# Altium footprint library GAPlib_CONNECTOR.PcbLib: 26 footprints (part 1 of 2)
Each footprint in its own frame and in the unit in brackets; x right, y up, seen from the top. Pads: shape width x height; smd on the part's side, far side on the other; paste and mask are expansions set on the pad; w line width, h text height; cw(c..) or ccw(c..) is an arc to the next point about the centre after c.
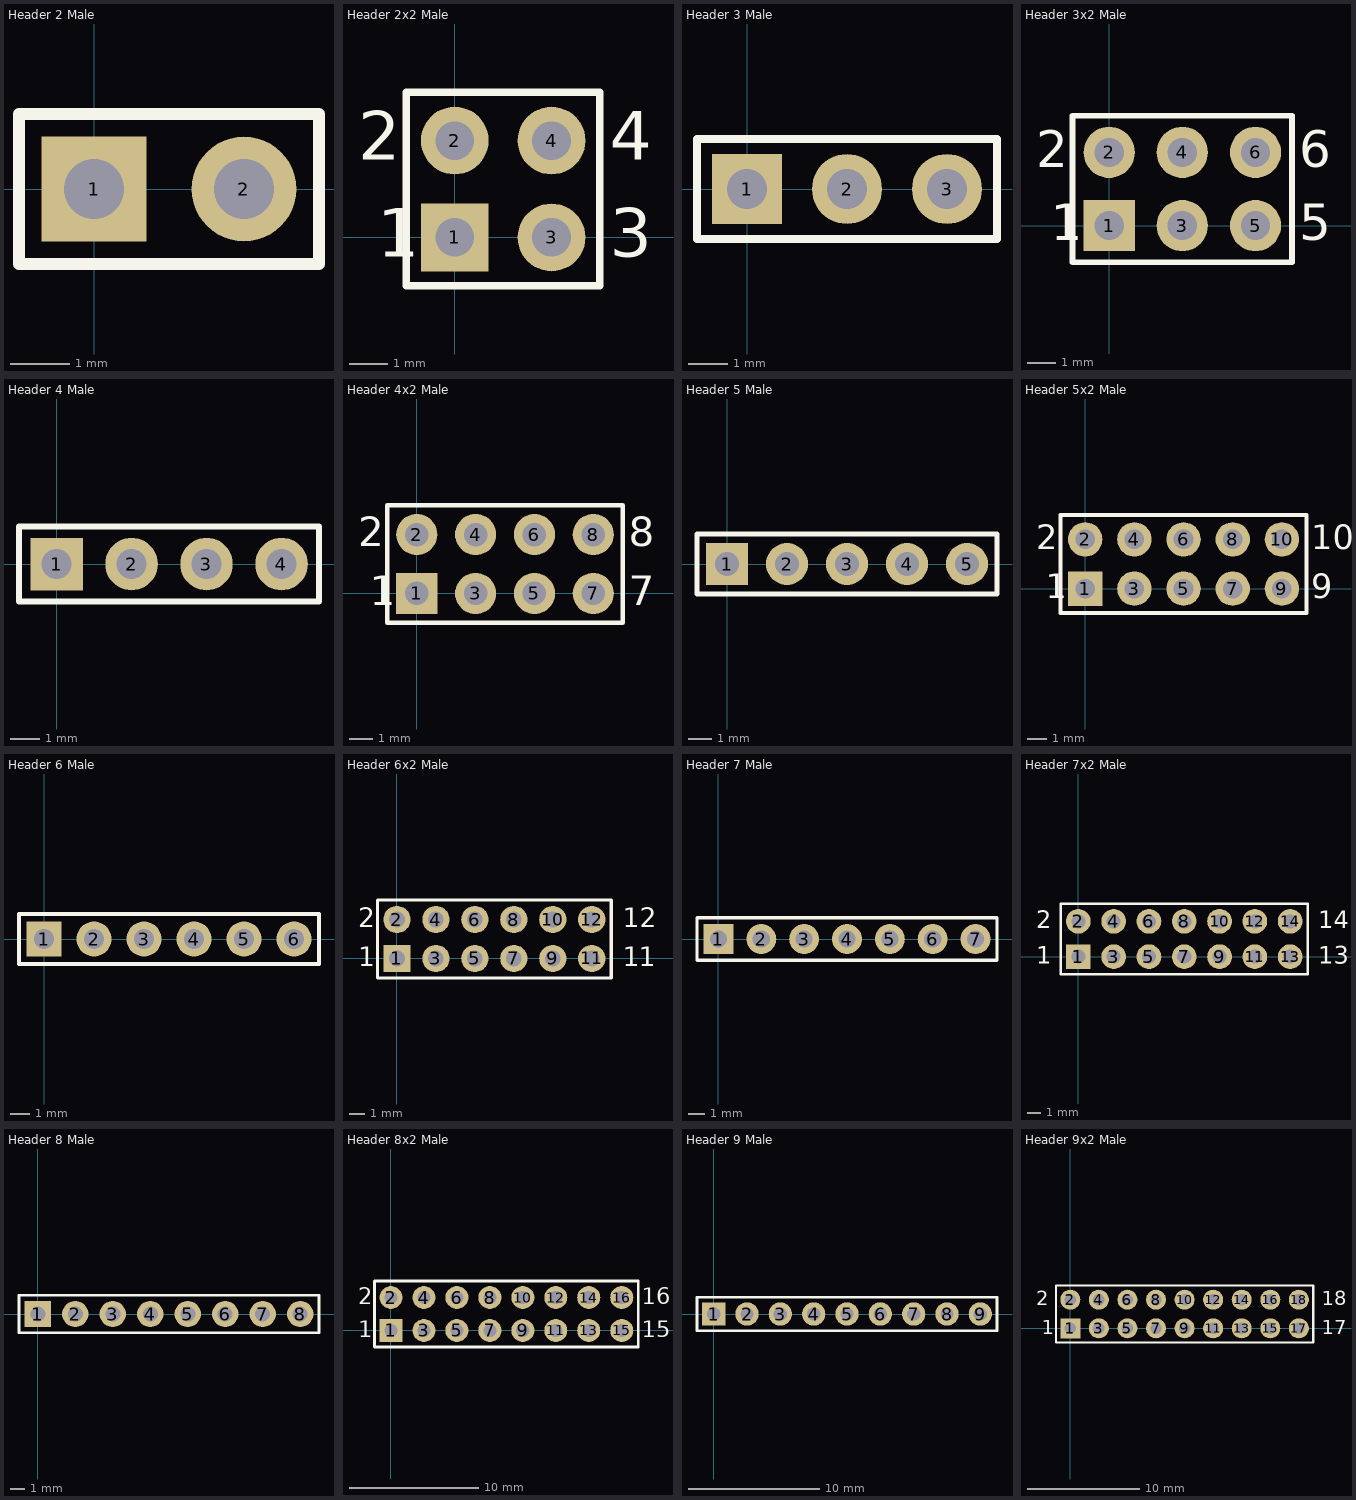
[diagram p0: the footprints below, top view; thin cyan lines are the x and y axes]

## Header 2 Male [mil]
pads (2):
  rect 70x70 hole 40: 1(0,0)
  round 70 hole 40: 2(100,0)
Top Overlay:
  lines w7.87: -50,-50 -50,50 150,50 150,-50 -50,-50
3D body "2.54X2_pinheader_male.SLDPRT": height 326.77, standoff -224.41, extent -50,-50 150,50

## Header 2x2 Male [mil]
pads (4):
  rect 70x70 hole 40: 1(0,0)
  round 70 hole 40: 2(0,100) 3(100,0) 4(100,100)
Top Overlay:
  lines w7.87: -50,-50 -50,150 150,150 150,-50 -50,-50
  text "1" at -80,-20 h50
  text "2" at -100,80 h50
  text "4" at 160,80 h50
  text "3" at 160,-20 h50
3D body "2.54X2_pinheader_male.SLDPRT": height 326.77, standoff -224.41, extent -50,-49.99 50,150.01
3D body "2.54X2_pinheader_male.SLDPRT": height 326.77, standoff -224.41, extent 50,-49.99 150,150.01

## Header 3 Male [mil]
pads (3):
  rect 70x70 hole 40: 1(0,0)
  round 70 hole 40: 2(100,0) 3(200,0)
Top Overlay:
  lines w7.87: -50,-50 250,-50 250,50 -50,50 -50,-50
3D body "2.54X2_pinheader_male.SLDPRT": height 326.77, standoff -224.41, extent -49.99,-49.99 150.01,50.01
3D body "2.54X1_pinheader_male.SLDPRT": height 326.77, standoff -224.41, extent 150.01,-50 250.01,50

## Header 3x2 Male [mil]
pads (6):
  rect 70x70 hole 40: 1(0,0)
  round 70 hole 40: 2(0,100) 3(100,0) 4(100,100) 5(200,0) 6(200,100)
Top Overlay:
  lines w7.87: 58.33,-50 250,-50 ; 250,-50 250,150 -50,150 -50,-50 250,-50
  text "6" at 260,80 h50
  text "5" at 260,-20 h50
  text "2" at -100,80 h50
  text "1" at -80,-20 h50
3D body "2.54X2_pinheader_male.SLDPRT": height 326.77, standoff -224.41, extent 150,-49.99 250,150.01
3D body "2.54X2_pinheader_male.SLDPRT": height 326.77, standoff -224.41, extent 50,-49.99 150,150.01
3D body "2.54X2_pinheader_male.SLDPRT": height 326.77, standoff -224.41, extent -50,-50 50,150

## Header 4 Male [mil]
pads (4):
  rect 70x70 hole 40: 1(0,0)
  round 70 hole 40: 2(100,0) 3(200,0) 4(300,0)
Top Overlay:
  lines w7.87: -50,-50 350,-50 350,50 -50,50 -50,-50
3D body "2.54X2_pinheader_male.SLDPRT": height 326.77, standoff -224.41, extent 150.01,-49.99 350.01,50.01
3D body "2.54X2_pinheader_male.SLDPRT": height 326.77, standoff -224.41, extent -49.99,-49.99 150.01,50.01

## Header 4x2 Male [mil]
pads (8):
  rect 70x70 hole 40: 1(0,0)
  round 70 hole 40: 2(0,100) 3(100,0) 4(100,100) 5(200,0) 6(200,100) 7(300,0) 8(300,100)
Top Overlay:
  lines w7.87: -50,-50 350,-50 350,150 -50,150 -50,-50
  text "2" at -100,80 h50
  text "1" at -80,-20 h50
  text "7" at 360,-20 h50
  text "8" at 360,80 h50
3D body "2.54X2_pinheader_male.SLDPRT": height 326.77, standoff -224.41, extent -50,-49.99 50,150.01
3D body "2.54X2_pinheader_male.SLDPRT": height 326.77, standoff -224.41, extent 50,-49.99 150,150.01
3D body "2.54X2_pinheader_male.SLDPRT": height 326.77, standoff -224.41, extent 150,-49.99 250,150.01
3D body "2.54X2_pinheader_male.SLDPRT": height 326.77, standoff -224.41, extent 250,-49.99 350,150.01

## Header 5 Male [mil]
pads (5):
  rect 70x70 hole 40: 1(0,0)
  round 70 hole 40: 2(100,0) 3(200,0) 4(300,0) 5(400,0)
Top Overlay:
  lines w7.87: -50,-50 -50,50 450,50 450,-50 -50,-50
3D body "2.54X2_pinheader_male.SLDPRT": height 326.77, standoff -224.41, extent -49.99,-49.99 150.01,50.01
3D body "2.54X2_pinheader_male.SLDPRT": height 326.77, standoff -224.41, extent 150,-49.99 350,50.01
3D body "2.54X1_pinheader_male.SLDPRT": height 326.77, standoff -224.41, extent 350.01,-49.99 450.01,50.01

## Header 5x2 Male [mil]
pads (10):
  rect 70x70 hole 40: 1(0,0)
  round 70 hole 40: 2(0,100) 3(100,0) 4(100,100) 5(200,0) 6(200,100) 7(300,0) 8(300,100) 9(400,0) 10(400,100)
Top Overlay:
  lines w7.87: -50,-50 450,-50 450,150 -50,150 -50,-50
  text "10" at 460,80 h50
  text "9" at 460,-20 h50
  text "1" at -80,-20 h50
  text "2" at -100,80 h50
3D body "2.54X2_pinheader_male.SLDPRT": height 326.77, standoff -224.41, extent -50,-49.99 50,150.01
3D body "2.54X2_pinheader_male.SLDPRT": height 326.77, standoff -224.41, extent 50,-50 150,150
3D body "2.54X2_pinheader_male.SLDPRT": height 326.77, standoff -224.41, extent 150,-49.99 250,150.01
3D body "2.54X2_pinheader_male.SLDPRT": height 326.77, standoff -224.41, extent 250,-50 350,150
3D body "2.54X2_pinheader_male.SLDPRT": height 326.77, standoff -224.41, extent 350,-49.99 450,150.01

## Header 6 Male [mil]
pads (6):
  rect 70x70 hole 40: 1(0,0)
  round 70 hole 40: 2(100,0) 3(200,0) 4(300,0) 5(400,0) 6(500,0)
Top Overlay:
  lines w7.87: -50,-50 -50,50 550,50 550,-50 -50,-50
3D body "2.54X2_pinheader_male.SLDPRT": height 326.77, standoff -224.41, extent -49.99,-49.99 150.01,50.01
3D body "2.54X2_pinheader_male.SLDPRT": height 326.77, standoff -224.41, extent 150.01,-49.99 350.01,50.01
3D body "2.54X2_pinheader_male.SLDPRT": height 326.77, standoff -224.41, extent 350.01,-49.99 550.01,50.01

## Header 6x2 Male [mil]
pads (12):
  rect 70x70 hole 40: 1(0,0)
  round 70 hole 40: 2(0,100) 3(100,0) 4(100,100) 5(200,0) 6(200,100) 7(300,0) 8(300,100) 9(400,0) 10(400,100) 11(500,0) 12(500,100)
Top Overlay:
  lines w7.87: -50,-50 550,-50 550,150 -50,150 -50,-50
  text "12" at 580,80 h50
  text "1" at 620,-20 h50
  text "1" at 580,-20 h50
  text "1" at -100,-20 h50
  text "2" at -100,80 h50
3D body "2.54X2_pinheader_male.SLDPRT": height 326.77, standoff -224.41, extent -50,-50 50,150
3D body "2.54X2_pinheader_male.SLDPRT": height 326.77, standoff -224.41, extent 50,-49.99 150,150.01
3D body "2.54X2_pinheader_male.SLDPRT": height 326.77, standoff -224.41, extent 150,-50 250,150
3D body "2.54X2_pinheader_male.SLDPRT": height 326.77, standoff -224.41, extent 250,-49.99 350,150.01
3D body "2.54X2_pinheader_male.SLDPRT": height 326.77, standoff -224.41, extent 350,-50 450,150
3D body "2.54X2_pinheader_male.SLDPRT": height 326.77, standoff -224.41, extent 450,-49.99 550,150.01

## Header 7 Male [mil]
pads (7):
  rect 70x70 hole 40: 1(0,0)
  round 70 hole 40: 2(100,0) 3(200,0) 4(300,0) 5(400,0) 6(500,0) 7(600,0)
Top Overlay:
  lines w7.87: -50,-50 650,-50 650,50 -50,50 -50,-50
3D body "2.54X1_pinheader_male.SLDPRT": height 326.77, standoff -224.41, extent 550.01,-49.99 650.01,50.01
3D body "2.54X2_pinheader_male.SLDPRT": height 326.77, standoff -224.41, extent 350.01,-49.99 550.01,50.01
3D body "2.54X2_pinheader_male.SLDPRT": height 326.77, standoff -224.41, extent 150.01,-49.99 350.01,50.01
3D body "2.54X2_pinheader_male.SLDPRT": height 326.77, standoff -224.41, extent -49.99,-50 150.01,50

## Header 7x2 Male [mil]
pads (14):
  rect 70x70 hole 40: 1(0,0)
  round 70 hole 40: 2(0,100) 3(100,0) 4(100,100) 5(200,0) 6(200,100) 7(300,0) 8(300,100) 9(400,0) 10(400,100) 11(500,0) 12(500,100) 13(600,0) 14(600,100)
Top Overlay:
  lines w7.87: -50,-50 650,-50 650,150 -50,150 -50,-50
  text "13" at 680,-20 h50
  text "14" at 680,80 h50
  text "1" at -120,-20 h50
  text "2" at -120,80 h50
3D body "2.54X2_pinheader_male.SLDPRT": height 326.77, standoff -224.41, extent 550,-49.99 650,150.01
3D body "2.54X2_pinheader_male.SLDPRT": height 326.77, standoff -224.41, extent 450,-49.99 550,150.01
3D body "2.54X2_pinheader_male.SLDPRT": height 326.77, standoff -224.41, extent 350,-49.99 450,150.01
3D body "2.54X2_pinheader_male.SLDPRT": height 326.77, standoff -224.41, extent 250,-49.99 350,150.01
3D body "2.54X2_pinheader_male.SLDPRT": height 326.77, standoff -224.41, extent 150,-49.99 250,150.01
3D body "2.54X2_pinheader_male.SLDPRT": height 326.77, standoff -224.41, extent 50,-49.99 150,150.01
3D body "2.54X2_pinheader_male.SLDPRT": height 326.77, standoff -224.41, extent -50,-50 50,150

## Header 8 Male [mil]
pads (8):
  rect 70x70 hole 40: 1(0,0)
  round 70 hole 40: 2(100,0) 3(200,0) 4(300,0) 5(400,0) 6(500,0) 7(600,0) 8(700,0)
Top Overlay:
  lines w7.87: -50,-50 -50,50 750,50 750,-50 -50,-50
3D body "2.54X2_pinheader_male.SLDPRT": height 326.77, standoff -224.41, extent -50,-49.99 150,50.01
3D body "2.54X2_pinheader_male.SLDPRT": height 326.77, standoff -224.41, extent 150,-49.99 350,50.01
3D body "2.54X2_pinheader_male.SLDPRT": height 326.77, standoff -224.41, extent 350.01,-49.99 550.01,50.01
3D body "2.54X2_pinheader_male.SLDPRT": height 326.77, standoff -224.41, extent 550.01,-49.99 750.01,50.01

## Header 8x2 Male [mil]
pads (16):
  rect 70x70 hole 40: 1(0,0)
  round 70 hole 40: 2(0,100) 3(100,0) 4(100,100) 5(200,0) 6(200,100) 7(300,0) 8(300,100) 9(400,0) 10(400,100) 11(500,0) 12(500,100) 13(600,0) 14(600,100) 15(700,0) 16(700,100)
Top Overlay:
  lines w7.87: -50,-50 750,-50 750,150 -50,150 -50,-50
  text "16" at 760,80 h50
  text "15" at 760,-20 h50
  text "1" at -100,-20 h50
  text "2" at -100,80 h50
3D body "2.54X2_pinheader_male.SLDPRT": height 326.77, standoff -224.41, extent 650,-49.99 750,150.01
3D body "2.54X2_pinheader_male.SLDPRT": height 326.77, standoff -224.41, extent 550,-50 650,150
3D body "2.54X2_pinheader_male.SLDPRT": height 326.77, standoff -224.41, extent 450,-49.99 550,150.01
3D body "2.54X2_pinheader_male.SLDPRT": height 326.77, standoff -224.41, extent 350,-49.99 450,150.01
3D body "2.54X2_pinheader_male.SLDPRT": height 326.77, standoff -224.41, extent 250,-49.99 350,150.01
3D body "2.54X2_pinheader_male.SLDPRT": height 326.77, standoff -224.41, extent 150,-50 250,150
3D body "2.54X2_pinheader_male.SLDPRT": height 326.77, standoff -224.41, extent 50,-49.99 150,150.01
3D body "2.54X2_pinheader_male.SLDPRT": height 326.77, standoff -224.41, extent -50,-49.99 50,150.01

## Header 9 Male [mil]
pads (9):
  rect 70x70 hole 40: 1(0,0)
  round 70 hole 40: 2(100,0) 3(200,0) 4(300,0) 5(400,0) 6(500,0) 7(600,0) 8(700,0) 9(800,0)
Top Overlay:
  lines w7.87: -50,-50 -50,50 850,50 850,-50 -50,-50
3D body "2.54X1_pinheader_male.SLDPRT": height 326.77, standoff -224.41, extent 750.01,-49.99 850.01,50.01
3D body "2.54X2_pinheader_male.SLDPRT": height 326.77, standoff -224.41, extent 550.01,-49.99 750.01,50.01
3D body "2.54X2_pinheader_male.SLDPRT": height 326.77, standoff -224.41, extent 350.01,-49.99 550.01,50.01
3D body "2.54X2_pinheader_male.SLDPRT": height 326.77, standoff -224.41, extent 150.01,-49.99 350.01,50.01
3D body "2.54X2_pinheader_male.SLDPRT": height 326.77, standoff -224.41, extent -49.99,-49.99 150.01,50.01

## Header 9x2 Male [mil]
pads (18):
  rect 70x70 hole 40: 1(0,0)
  round 70 hole 40: 2(0,100) 3(100,0) 4(100,100) 5(200,0) 6(200,100) 7(300,0) 8(300,100) 9(400,0) 10(400,100) 11(500,0) 12(500,100) 13(600,0) 14(600,100) 15(700,0) 16(700,100) 17(800,0) 18(800,100)
Top Overlay:
  lines w7.87: -50,-50 850,-50 850,150 -50,150 -50,-50
  text "18" at 880,80 h50
  text "17" at 880,-20 h50
  text "1" at -100,-20 h50
  text "2" at -120,80 h50
3D body "2.54X2_pinheader_male.SLDPRT": height 326.77, standoff -224.41, extent -50,-49.99 50,150.01
3D body "2.54X2_pinheader_male.SLDPRT": height 326.77, standoff -224.41, extent 50,-49.99 150,150.01
3D body "2.54X2_pinheader_male.SLDPRT": height 326.77, standoff -224.41, extent 150,-50 250,150
3D body "2.54X2_pinheader_male.SLDPRT": height 326.77, standoff -224.41, extent 250,-49.99 350,150.01
3D body "2.54X2_pinheader_male.SLDPRT": height 326.77, standoff -224.41, extent 350,-49.99 450,150.01
3D body "2.54X2_pinheader_male.SLDPRT": height 326.77, standoff -224.41, extent 450,-50 550,150
3D body "2.54X2_pinheader_male.SLDPRT": height 326.77, standoff -224.41, extent 550,-49.99 650,150.01
3D body "2.54X2_pinheader_male.SLDPRT": height 326.77, standoff -224.41, extent 650,-49.99 750,150.01
3D body "2.54X2_pinheader_male.SLDPRT": height 326.77, standoff -224.41, extent 750,-49.99 850,150.01